# Altium schematic symbol library 87833-2020.SchLib: 1 symbol
Pins are listed as number, name and electrical type; pins without a type are passive.

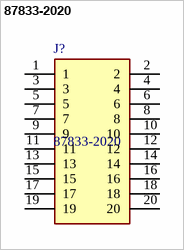
[diagram p0: symbol 87833-2020]

## 87833-2020
designator J?
Milli-Grid 2.0mm Header rightangle 20way Molex 87833 Series, 2mm Pitch 20 Way 2 Row Right Angle PCB Header, Solder Termination, 2A; Geometry.Height: 6.3mm; Mouser Part Number: 538-87833-2020; Mouser Price/Stock: https://www.mouser.co.uk/ProductDetail/Molex/87833-2020?qs=9Wl4wMk6NjqIn8s9c3rdaw%3D%3D; Manufacturer_Name: Molex; Manufacturer_Part_Number: 87833-2020; Datasheet Link: https://www.molex.com/pdm_docs/sd/878332020_sd.pdf
footprint SHDRRA20W55P200_2X10_2265X640X630P
pins: 1, 2, 3, 4, 5, 6, 7, 8, 9, 10, 11, 12, 13, 14, 15, 16, 17, 18, 19, 20